# Altium schematic symbol library 156120VS75300.SchLib: 2 symbols
Pins are listed as number, name and electrical type; pins without a type are passive.

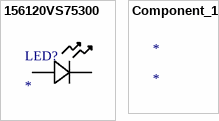
[diagram p0: symbols 156120VS75300 to Component_1]

## 156120VS75300
designator LED?
No Description Available; Mfr_Name: Wurth Electronics
footprint LED_VS75300_WRE
pins: 1, 2

## Component_1
designator *